# EAGLE library part MIC2005 (library ZMPLC)
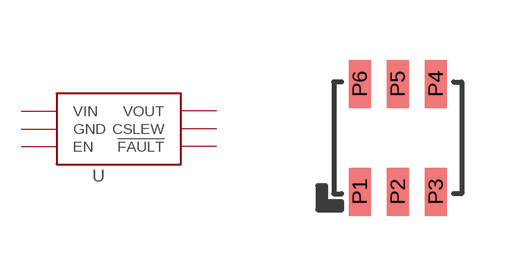
[diagram p9: symbol with the pads of SOT23; footprint SOT23]

Designator prefix -

## MIC2005  [SOT23]
P1  VIN  pwr
P2  GND  pwr
P3  EN
P4  !FAULT!
P5  CSLEW
P6  VOUT

## Footprint SOT23 (pad centres in mm)
smd 0.55 x 1.2: P1 -0.95,-1.35; P2 0,-1.35; P3 0.95,-1.35; P4 0.95,1.35; P5 0,1.35; P6 -0.95,1.35